# Altium schematic symbol library ALl.SchLib: 4 symbols
Pins are listed as number, name and electrical type; pins without a type are passive.

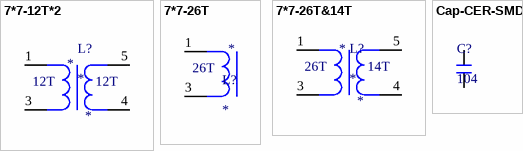
[diagram p0: symbols 7*7-12T*2 to Cap-CER-SMD]

## 7*7-12T*2
designator L?
footprint adj_L_77
pins: 1, 3, 4, 5
text: 12T

## 7*7-26T
designator L?
footprint adj_L_77
pins: 1, 3
text: 26T

## 7*7-26T&14T
designator L?
footprint adj_L_77
pins: 1, 3, 4, 5
text: 26T; 14T

## Cap-CER-SMD
designator C?, comment 104
瓷片电容-贴片
footprint C 0201 (无极性贴片电容)
footprint C 0402 (无极性贴片电容)
footprint C 0603 (无极性贴片电容)
footprint C 0805 (无极性贴片电容)
footprint C 1206 (无极性贴片电容)
footprint C 1210 (无极性贴片电容)
footprint C 1808 (无极性贴片电容)
footprint C 1812 (无极性贴片电容)
footprint C 1825 (无极性贴片电容)
footprint C 2225 (无极性贴片电容)
pins: 1, 2